# EAGLE library part ESP-12 (library ESP8266)
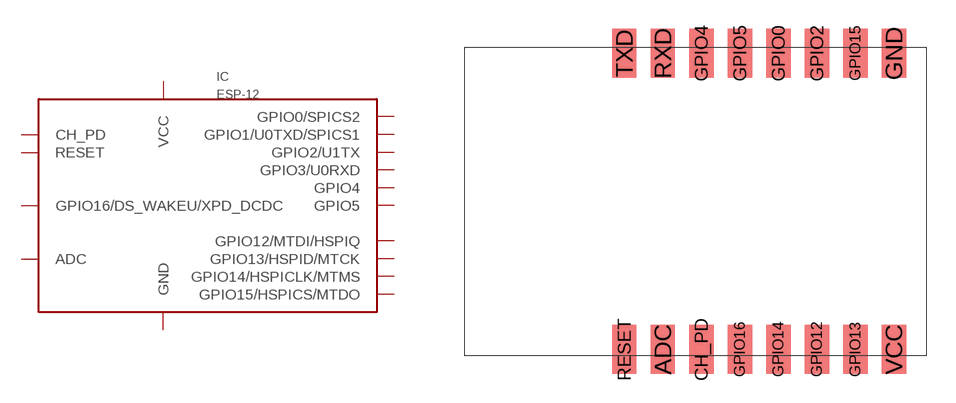
[diagram p1: symbol with the pads of ESP-12; footprint ESP-12]

Designator prefix IC

## ESP-12  [ESP-12]
ADC  ADC
CH_PD  CH_PD
GND  GND
GPIO0  GPIO0/SPICS2
GPIO2  GPIO2/U1TX
GPIO4  GPIO4
GPIO5  GPIO5
GPIO12  GPIO12/MTDI/HSPIQ
GPIO13  GPIO13/HSPID/MTCK
GPIO14  GPIO14/HSPICLK/MTMS
GPIO15  GPIO15/HSPICS/MTDO
GPIO16  GPIO16/DS_WAKEU/XPD_DCDC
RESET  RESET
RXD  GPIO3/U0RXD
TXD  GPIO1/U0TXD/SPICS1
VCC  VCC

## Footprint ESP-12 (pad centres in mm)
smd 1.27 x 2.54: ADC 10.3,0.3; CH_PD 12.3,0.3; GND 22.3,15.7; GPIO0 16.3,15.7; GPIO2 18.3,15.7; GPIO4 12.3,15.7; GPIO5 14.3,15.7; GPIO12 18.3,0.3; GPIO13 20.3,0.3; GPIO14 16.3,0.3; GPIO15 20.3,15.7; GPIO16 14.3,0.3; RESET 8.3,0.3; RXD 10.3,15.7; TXD 8.3,15.7; VCC 22.3,0.3